# Altium integrated library Celestial Library.IntLib: 629 symbols (part 9 of 28)

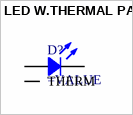
[diagram p184: symbol LED W.THERMAL PAD]

## LED W.THERMAL PAD
designator D?
Chip LED
pins: 0 THERM, 1, 2


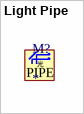
[diagram p185: symbol Light Pipe]

## Light Pipe
designator M?
text: 光; PIPE


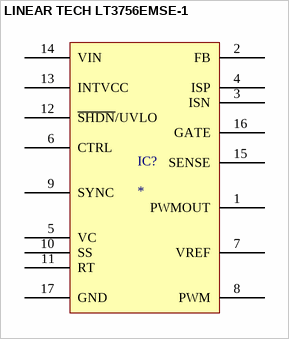
[diagram p186: symbol LINEAR TECH LT3756EMSE-1]

## LINEAR TECH LT3756EMSE-1
designator IC?
pins: 1 PWMOUT, 2 FB, 3 ISN, 4 ISP, 5 VC, 6 CTRL, 7 VREF, 8 PWM, 9 SYNC, 10 SS, 11 RT, 12 ~{SHDN}/UVLO, 13 INTVCC, 14 VIN, 15 SENSE, 16 GATE, 17 GND


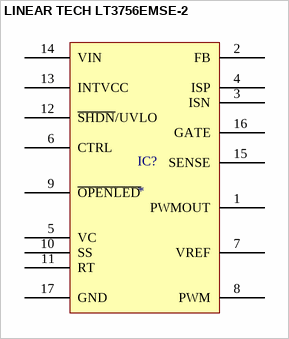
[diagram p187: symbol LINEAR TECH LT3756EMSE-2]

## LINEAR TECH LT3756EMSE-2
designator IC?
pins: 1 PWMOUT, 2 FB, 3 ISN, 4 ISP, 5 VC, 6 CTRL, 7 VREF, 8 PWM, 9 ~{OPENLED}, 10 SS, 11 RT, 12 ~{SHDN}/UVLO, 13 INTVCC, 14 VIN, 15 SENSE, 16 GATE, 17 GND


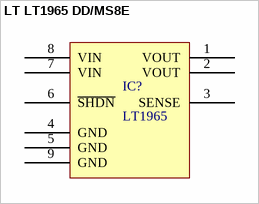
[diagram p188: symbol LT LT1965 DD/MS8E]

## LT LT1965 DD/MS8E
designator IC?, comment LT1965
1.1A, Low Noise, Low Dropout Linear Regulator
pins: 1 VOUT, 2 VOUT, 3 SENSE, 4 GND, 5 GND, 6 ~{SHDN}, 7 VIN, 8 VIN, 9 GND


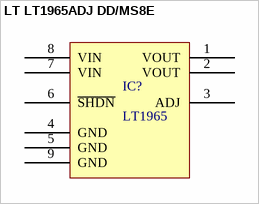
[diagram p189: symbol LT LT1965ADJ DD/MS8E]

## LT LT1965ADJ DD/MS8E
designator IC?, comment LT1965
1.1A, Low Noise, Low Dropout Linear Regulator
pins: 1 VOUT, 2 VOUT, 3 ADJ, 4 GND, 5 GND, 6 ~{SHDN}, 7 VIN, 8 VIN, 9 GND


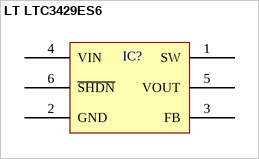
[diagram p190: symbol LT LTC3429ES6]

## LT LTC3429ES6
designator IC?
pins: 1 SW, 2 GND (power), 3 FB, 4 VIN (power), 5 VOUT, 6 ~{SHDN}


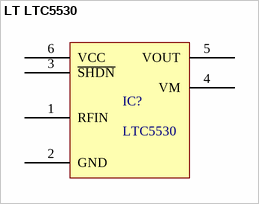
[diagram p191: symbol LT LTC5530]

## LT LTC5530
designator IC?, comment LTC5530
Precision 300MHz to 7GHz  RF Detector with Shutdown  and Gain Adjustment
pins: 1 RFIN, 2 GND, 3 ~{SHDN}, 4 VM, 5 VOUT, 6 VCC


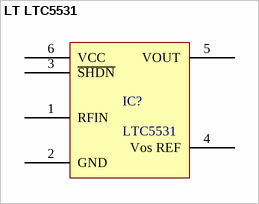
[diagram p192: symbol LT LTC5531]

## LT LTC5531
designator IC?, comment LTC5531
Precision 300MHz to 7GHz  RF Detector with Shutdown  and Offset Adjustment
pins: 1 RFIN, 2 GND, 3 ~{SHDN}, 4 Vos REF, 5 VOUT, 6 VCC


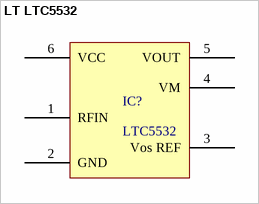
[diagram p193: symbol LT LTC5532]

## LT LTC5532
designator IC?, comment LTC5532
Precision 300MHz to 7GHz  RF Detector with Shutdown  and Gain Adjustment
pins: 1 RFIN, 2 GND, 3 Vos REF, 4 VM, 5 VOUT, 6 VCC


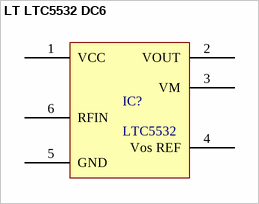
[diagram p194: symbol LT LTC5532 DC6]

## LT LTC5532 DC6
designator IC?, comment LTC5532
Precision 300MHz to 7GHz  RF Detector with Shutdown  and Gain Adjustment
pins: 1 VCC, 2 VOUT, 3 VM, 4 Vos REF, 5 GND, 6 RFIN


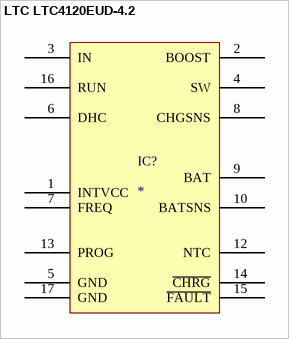
[diagram p195: symbol LTC LTC4120EUD-4.2]

## LTC LTC4120EUD-4.2
designator IC?
pins: 1 INTVCC, 2 BOOST, 3 IN, 4 SW, 5 GND, 6 DHC, 7 FREQ, 8 CHGSNS, 9 BAT, 10 BATSNS, 12 NTC, 13 PROG, 14 ~{CHRG}, 15 ~{FAULT}, 16 RUN, 17 GND


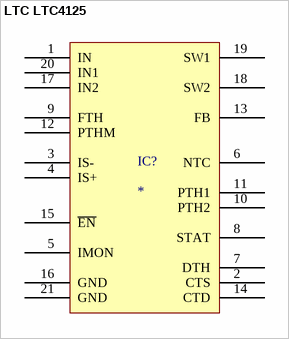
[diagram p196: symbol LTC LTC4125]

## LTC LTC4125
designator IC?
pins: 1 IN, 2 CTS, 3 IS-, 4 IS+, 5 IMON, 6 NTC, 7 DTH, 8 STAT, 9 FTH, 10 PTH2, 11 PTH1, 12 PTHM, 13 FB, 14 CTD, 15 ~{EN}, 16 GND, 17 IN2, 18 SW2, 19 SW1, 20 IN1, 21 GND


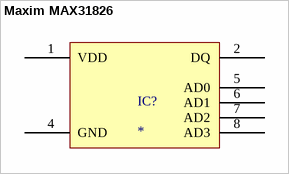
[diagram p197: symbol Maxim MAX31826]

## Maxim MAX31826
designator IC?
pins: 1 VDD, 2 DQ, 4 GND, 5 AD0, 6 AD1, 7 AD2, 8 AD3


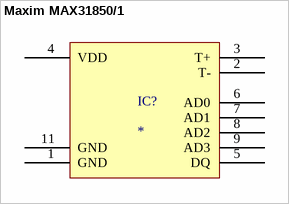
[diagram p198: symbol Maxim MAX31850/1]

## Maxim MAX31850/1
designator IC?
pins: 1 GND, 2 T-, 3 T+, 4 VDD, 5 DQ, 6 AD0, 7 AD1, 8 AD2, 9 AD3, 11 GND


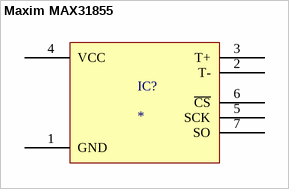
[diagram p199: symbol Maxim MAX31855]

## Maxim MAX31855
designator IC?
pins: 1 GND, 2 T-, 3 T+, 4 VCC, 5 SCK, 6 ~{CS}, 7 SO


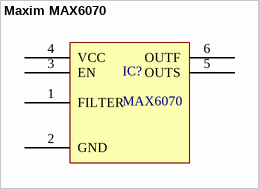
[diagram p200: symbol Maxim MAX6070]

## Maxim MAX6070
designator IC?, comment MAX6070
Low Noise High Precision Series Voltage References
pins: 1 FILTER, 2 GND, 3 EN, 4 VCC, 5 OUTS, 6 OUTF


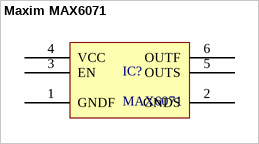
[diagram p201: symbol Maxim MAX6071]

## Maxim MAX6071
designator IC?, comment MAX6071
Low Noise High Precision Series Voltage References
pins: 1 GNDF, 2 GNDS, 3 EN, 4 VCC, 5 OUTS, 6 OUTF


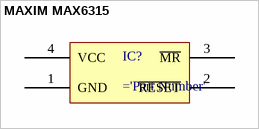
[diagram p202: symbol MAXIM MAX6315]

## MAXIM MAX6315
designator IC?
pins: 1 GND, 2 ~{RESET}, 3 ~{MR}, 4 VCC


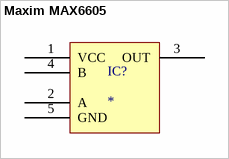
[diagram p203: symbol Maxim MAX6605]

## Maxim MAX6605
designator IC?
pins: 1 VCC, 2 A "GND", 3 OUT, 4 B, 5 GND


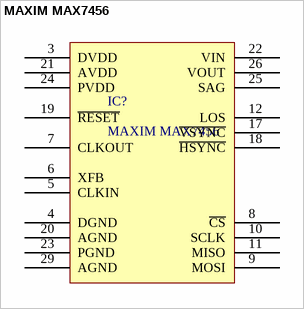
[diagram p204: symbol MAXIM MAX7456]

## MAXIM MAX7456
designator IC?
Single-Channel Monochrome On-Screen Display OSD with Integrated EEPROM
pins: 3 DVDD "Desc1", 4 DGND "Desc1", 5 CLKIN "Desc1", 6 XFB "Desc1", 7 CLKOUT "Desc1", 8 ~{CS} "Desc1", 9 MOSI "Desc1", 10 SCLK "Desc1", 11 MISO "Desc1", 12 LOS "Desc1", 17 ~{VSYNC} "Desc1", 18 ~{HSYNC} "Desc1", 19 ~{RESET} "Desc1", 20 AGND "Desc1", 21 AVDD "Desc1", 22 VIN "Desc1", 23 PGND "Desc1", 24 PVDD "Desc1", 25 SAG "Desc1", 26 VOUT "Desc1", 29 AGND "Desc1"


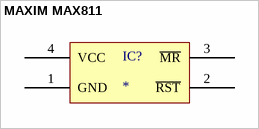
[diagram p205: symbol MAXIM MAX811]

## MAXIM MAX811
designator IC?
pins: 1 GND, 2 ~{RST}, 3 ~{MR}, 4 VCC


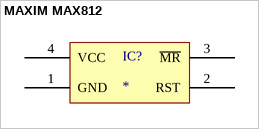
[diagram p206: symbol MAXIM MAX812]

## MAXIM MAX812
designator IC?
pins: 1 GND, 2 RST, 3 ~{MR}, 4 VCC
